# Altium schematic symbol library N25Qx1xSE.SchLib: 1 symbol
Pins are listed as number, name and electrical type; pins without a type are passive.

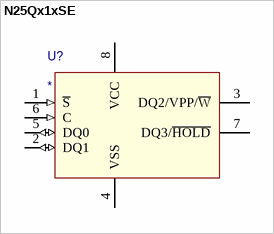
[diagram p0: symbol N25Qx1xSE]

## N25Qx1xSE
designator U?
pins: 1 ~{S} (in), 2 DQ1 (io), 3 DQ2/VPP/~{W}, 4 VSS (power), 5 DQ0 (io), 6 C (in), 7 DQ3/~{HOLD}, 8 VCC (power)